# Altium schematic symbol library Connecteurs.SchLib: 30 symbols
Pins are listed as number, name and electrical type; pins without a type are passive.

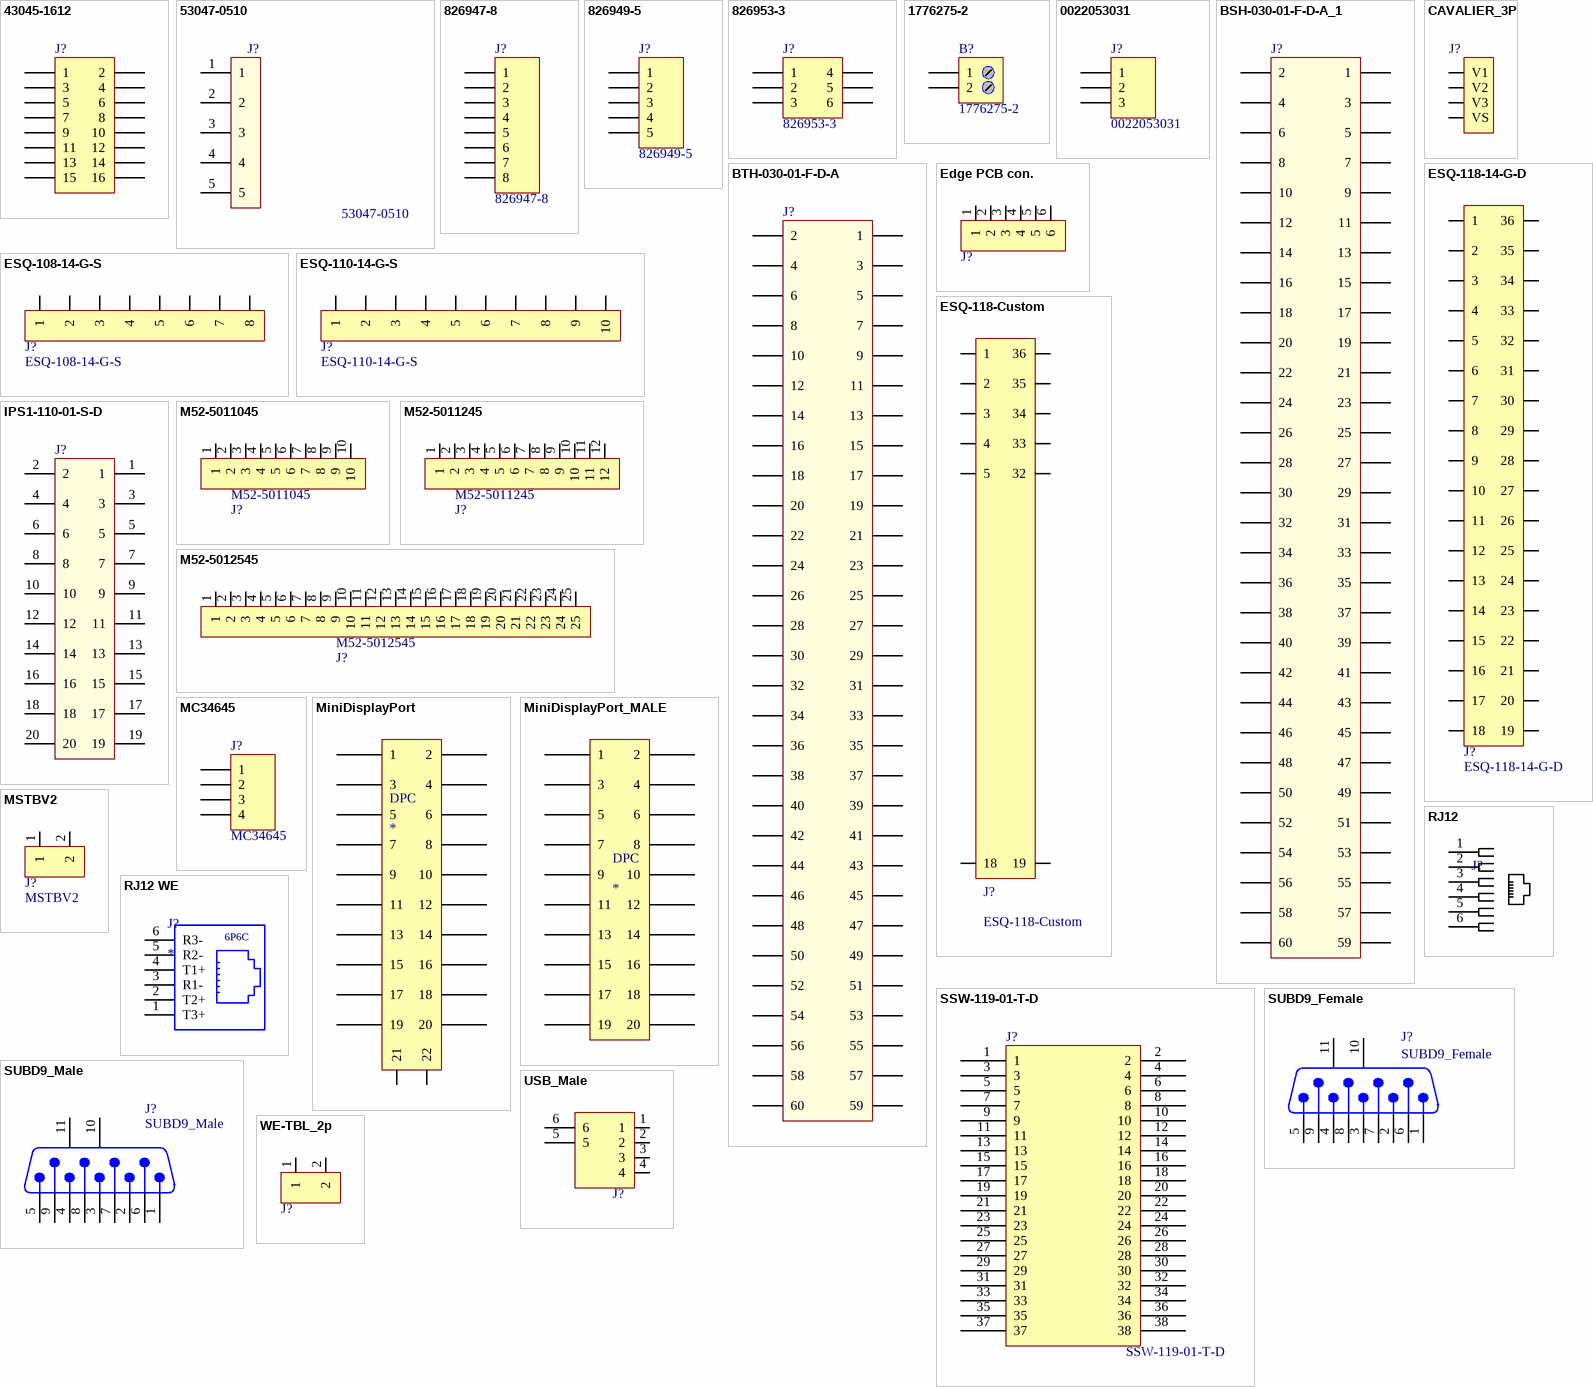
[diagram p0: symbols 43045-1612 to WE-TBL_2p]

## 43045-1612
designator J?  (value not drawn)
CONN HEADER VERT MICRO-FIT 16POS 3MM; Manufacturer: MOLEX; Supplier 1: Farnell; Supplier Part Number 1: 9961356; Manufacturer Part Number: 43045-1612; ComponentLink1URL: http://www.farnell.com/cad/1243826.pdf; ComponentLink1Description: http://www.farnell.com/cad/1243826.pdf; ComponentLink2URL: http://www.farnell.com/datasheets/1802882.pdf; ComponentLink2Description: http://www.farnell.com/datasheets/1802882.pdf
footprint 43045-1612 - ERROR FP
pins: 1, 2, 3, 4, 5, 6, 7, 8, 9, 10, 11, 12, 13, 14, 15, 16

## 53047-0510
designator J?
CONN HEADER VERT PICOBLADE 5POS 1.25MM; Manufacturer: MOLEX; Supplier 1: Farnell; Supplier Part Number 1: 9732861; Manufacturer Part Number: 53047-0510; ComponentLink1URL: http://www.farnell.com/cad/694680.pdf; ComponentLink1Description: http://www.farnell.com/cad/694680.pdf; ComponentLink2URL: http://www.farnell.com/datasheets/1755269.pdf; ComponentLink2Description: http://www.farnell.com/datasheets/1755269.pdf
footprint 53047-0510
pins: 1, 2, 3, 4, 5

## 826947-8
designator J?
CONN HEADER BRKWY R/A 8POS TIN; Manufacturer: TE Connectivity AMP Connectors; Supplier 1: Farnell; Manufacturer Part Number: 826947-8; ComponentLink1URL: http://www.te.com/commerce/DocumentDelivery/DDEController?Action=srchrtrv&DocNm=826629&DocType=Customer+Drawing&DocLang=English; ComponentLink1Description: http://www.te.com/commerce/DocumentDelivery/DDEController?Action=srchrtrv&DocNm=826629&DocType=Customer+Drawing&DocLang=English; Supplier Part Number 1: 1248174
footprint HDR1X8
pins: 1, 2, 3, 4, 5, 6, 7, 8

## 826949-5
designator J?
CONN HEADER BRKWY 5POS R/A TIN; Manufacturer: TE Connectivity AMP Connectors; Supplier 1: Farnell; Manufacturer Part Number: 826949-5; ComponentLink1URL: http://www.te.com/commerce/DocumentDelivery/DDEController?Action=srchrtrv&DocNm=826629&DocType=Customer+Drawing&DocLang=English; ComponentLink1Description: http://www.te.com/commerce/DocumentDelivery/DDEController?Action=srchrtrv&DocNm=826629&DocType=Customer+Drawing&DocLang=English; Supplier Part Number 1: 1248179
footprint HDR1X5
pins: 1, 2, 3, 4, 5

## 826953-3
designator J?
CONN HEADER BRKWY 6POS R/A TIN; Manufacturer: TE Connectivity AMP Connectors; Supplier 1: Farnell; Supplier Part Number 1: 1248186; Manufacturer Part Number: 826953-3; ComponentLink1URL: http://www.te.com/commerce/DocumentDelivery/DDEController?Action=srchrtrv&DocNm=826629&DocType=Customer+Drawing&DocLang=English; ComponentLink1Description: http://www.te.com/commerce/DocumentDelivery/DDEController?Action=srchrtrv&DocNm=826629&DocType=Customer+Drawing&DocLang=English; Pricing: 10=0.221, 50=0.207, 500=0.195, 1000=0.186, 2500=0.179, 5000=0.172 (EUR)
footprint HDR2X3
pins: 1, 2, 3, 4, 5, 6

## 1776275-2
designator B?
TERM BLOCK 2POS SIDE ENT 3.5MM; Manufacturer: TE Connectivity AMP Connectors; Supplier 1: Farnell; Supplier Part Number 1: 1098611; Manufacturer Part Number: 1776275-2; ComponentLink1URL: http://www.te.com/commerce/DocumentDelivery/DDEController?Action=srchrtrv&DocNm=1776275&DocType=Customer+Drawing&DocLang=English; ComponentLink1Description: http://www.te.com/commerce/DocumentDelivery/DDEController?Action=srchrtrv&DocNm=1776275&DocType=Customer+Drawing&DocLang=English
footprint BORNIER_2V_3.5MM
pins: 1, 2

## 0022053031
designator J?
CONN HEADER 3POS .100 R/A TIN; Manufacturer: Molex, LLC; Supplier 1: Farnell; Supplier Part Number 1: 1462932; Manufacturer Part Number: 0022053031; ComponentLink1URL: http://www.molex.com/pdm_docs/sd/022053031_sd.pdf; ComponentLink1Description: http://www.molex.com/pdm_docs/sd/022053031_sd.pdf
footprint HDR1X3
pins: 1, 2, 3

## BSH-030-01-F-D-A_1
designator J?, comment BSH-030-01-F-D-A  (value not drawn)
Samtec 0.5mm pitch 2*30pins  connector; Manufacturer 1: SAMTEC; Manufacturer Part Number: BSH-030-01-F-D-A; Pricing: N/A; ComponentLink1URL: http://www.samtec.com/technical-specifications/Default.aspx?SeriesMaster=BSH; ComponentLink1Description: http://www.samtec.com/technical-specifications/Default.aspx?SeriesMaster=BSH; ComponentLink2URL: http://cloud.samtec.com/catalog_english/BSH.PDF; ComponentLink2Description: http://cloud.samtec.com/catalog_english/BSH.PDF; Supplier 1: Farnell; Supplier Part Number 1: 2250450
footprint BSH-030-01-F-D-A
pins: 1, 2, 3, 4, 5, 6, 7, 8, 9, 10, 11, 12, 13, 14, 15, 16, 17, 18, 19, 20, 21, 22, 23, 24, 25, 26, 27, 28, 29, 30, 31, 32, 33, 34, 35, 36, 37, 38, 39, 40, 41, 42, 43, 44, 45, 46, 47, 48, 49, 50, 51, 52, 53, 54, 55, 56, 57, 58, 59, 60

## BTH-030-01-F-D-A
designator J?  (value not drawn)
Samtec 0.5mm pitch 2*30pins  connector; Manufacturer 1: SAMTEC; Manufacturer Part Number: BTH-030-01-F-D-A; Pricing: N/A; ComponentLink1URL: http://www.samtec.com/technical-specifications/Default.aspx?SeriesMaster=BTH; ComponentLink1Description: http://www.samtec.com/technical-specifications/Default.aspx?SeriesMaster=BTH; ComponentLink2URL: http://cloud.samtec.com/catalog_english/BTH.PDF; ComponentLink2Description: http://cloud.samtec.com/catalog_english/BTH.PDF
footprint BTH-030-01-F-D-A
pins: 1, 2, 3, 4, 5, 6, 7, 8, 9, 10, 11, 12, 13, 14, 15, 16, 17, 18, 19, 20, 21, 22, 23, 24, 25, 26, 27, 28, 29, 30, 31, 32, 33, 34, 35, 36, 37, 38, 39, 40, 41, 42, 43, 44, 45, 46, 47, 48, 49, 50, 51, 52, 53, 54, 55, 56, 57, 58, 59, 60

## CAVALIER_3P
designator J?, comment CAVALIER_4P  (value not drawn)
Manufacturer 1: homemade; Manufacturer Port Number: *; Supplier 1: homemade; Supplier Part Number 1: *
footprint CAVALIER_3P (Connection personnalisé pour bord de carte)
pins: 1 V1, 2 V2, 3 V3, 4 VS

## Edge PCB con.
designator J?  (value not drawn)
Connecteur personnalisé pour soudure à 90° de carte
footprint Edge solder junction (Connection personnalisé pour bord de carte)
pins: 1, 2, 3, 4, 5, 6

## ESQ-108-14-G-S
designator J?
Manufacturer 1: SAMTEC; Supplier 1: Farnell; Supplier Part Number 1: 1769283; Manufacturer Part Number: ESQ-108-14-G-S; Pricing: 5=3.487, 50=2.4, 100=1.875, 250=1.538, 500=1.4, 2500=1.137 (EUR); ComponentLink1URL: http://www.farnell.com/cad/477214.pdf; ComponentLink1Description: http://www.farnell.com/cad/477214.pdf; ComponentLink2URL: http://www.samtec.com/ftppub/pdf/ESQ_TH.pdf; ComponentLink2Description: http://www.samtec.com/ftppub/pdf/ESQ_TH.pdf
footprint ESQ-108-14-G-S
pins: 1, 2, 3, 4, 5, 6, 7, 8

## ESQ-110-14-G-S
designator J?
Manufacturer 1: SAMTEC; Supplier 1: Farnell; Supplier Part Number 1: 1769290; Manufacturer Part Number: ESQ-110-14-G-S; Pricing: 5=4.375, 50=3.012, 100=2.35, 250=1.925, 500=1.75, 2500=1.425 (EUR); ComponentLink1URL: http://www.farnell.com/cad/477214.pdf; ComponentLink1Description: http://www.farnell.com/cad/477214.pdf; ComponentLink2URL: http://www.samtec.com/ftppub/pdf/ESQ_TH.pdf; ComponentLink2Description: http://www.samtec.com/ftppub/pdf/ESQ_TH.pdf
footprint ESQ-110-14-G-S
pins: 1, 2, 3, 4, 5, 6, 7, 8, 9, 10

## ESQ-118-14-G-D
designator J?
Manufacturer 1: SAMTEC; Supplier 1: Farnell; Supplier Part Number 1: 1769197; Manufacturer Part Number: ESQ-118-14-G-D; Pricing: 1=13.413, 10=9.225, 50=6.15, 100=5.475, 250=4.925, 500=4.35 (EUR); ComponentLink1URL: http://www.farnell.com/cad/477214.pdf; ComponentLink1Description: http://www.farnell.com/cad/477214.pdf; ComponentLink2URL: http://www.samtec.com/ftppub/pdf/ESQ_TH.pdf; ComponentLink2Description: http://www.samtec.com/ftppub/pdf/ESQ_TH.pdf
footprint ESQ-118-14-G-D
pins: 1, 2, 3, 4, 5, 6, 7, 8, 9, 10, 11, 12, 13, 14, 15, 16, 17, 18, 19, 20, 21, 22, 23, 24, 25, 26, 27, 28, 29, 30, 31, 32, 33, 34, 35, 36

## ESQ-118-Custom
designator J?
footprint ESQ-118-Custom
pins: 1, 2, 3, 4, 5, 18, 19, 32, 33, 34, 35, 36

## IPS1-110-01-S-D
designator J?  (value not drawn)
Samtec 2'54mm pitch 2*10pins  connector; Supplier 1: Farnell; Supplier Part Number 1: 1667819; Manufacturer 1: SAMTEC; Manufacturer Part Number: IPS1-110-01-S-D; Pricing: 1=4.11, 10=3.95, 50=3.84, 100=3.74, 250=3.15, 500=2.84, 500=2.56, 3000=2.3 (EUR); ComponentLink1URL: http://www.farnell.com/cad/320914.pdf; ComponentLink1Description: http://www.farnell.com/cad/320914.pdf; ComponentLink2URL: http://www.samtec.com/documents/webfiles/pdf/IPS1.PDF; ComponentLink2Description: http://www.samtec.com/documents/webfiles/pdf/IPS1.PDF
footprint IPS1-110-01-S-D
pins: 1, 2, 3, 4, 5, 6, 7, 8, 9, 10, 11, 12, 13, 14, 15, 16, 17, 18, 19, 20

## M52-5011045
designator J?
Manufacturer 1: MULTICOMP; Manufacturer Part Number: 2206SA-10-46; Supplier 1: Farnell; Supplier Part Number 1: 1577767; Pricing: 5=0.98, 25=0.95, 100=0.93, 250=0.87, 500=0.82, 3000=0.738, 3000=0.664, 30000=0.598 (EUR); ComponentLink1URL: http://www.farnell.com/datasheets/1662389.pdf; ComponentLink1Description: http://www.farnell.com/datasheets/1662389.pdf
footprint M52-5011045
pins: 1, 2, 3, 4, 5, 6, 7, 8, 9, 10

## M52-5011245
designator J?
footprint M52-5011245
pins: 1, 2, 3, 4, 5, 6, 7, 8, 9, 10, 11, 12

## M52-5012545
designator J?
Manufacturer 1: MULTICOMP; Manufacturer Part Number: 2206SA-25-46; Supplier 1: Farnell; Supplier Part Number 1: 1577769; Pricing: 5=2.31, 25=2.23, 100=2.17, 250=2.06, 500=1.95, 900=1.76, 900=1.58, 9000=1.42 (EUR); ComponentLink1URL: http://www.farnell.com/datasheets/1662389.pdf; ComponentLink1Description: http://www.farnell.com/datasheets/1662389.pdf
footprint M52-50125245_TOP
footprint M52-50125245_Bottom
pins: 1, 2, 3, 4, 5, 6, 7, 8, 9, 10, 11, 12, 13, 14, 15, 16, 17, 18, 19, 20, 21, 22, 23, 24, 25

## MC34645
designator J?
MULTICOMP - MC34645 - EMB. MALE COUDEE  CON. MALE 2.54MM 4VOIE; Supplier 1: Farnell; Manufacturer: MULTICOMP; Manufacturer Part Number: MC34645; ComponentLink1URL: http://www.farnell.com/datasheets/1751312.pdf; ComponentLink1Description: http://www.farnell.com/datasheets/1751312.pdf; Pricing: 1=0.597, 5=0.531, 25=0.465, 50=0.399, 100=0.334, 250=0.138 (EUR); Supplier Part Number 1: 1675775
footprint HDR1X4
pins: 1, 2, 3, 4

## MiniDisplayPort
designator DPC
minidisplayport; Manufacturer 1: Jameco; Supplier 1: Jameco; Supplier Part Number: mdpC-s-ra
footprint Mdp
pins: 1, 2, 3, 4, 5, 6, 7, 8, 9, 10, 11, 12, 13, 14, 15, 16, 17, 18, 19, 20, 21, 22

## MiniDisplayPort_MALE
designator DPC
minidisplayport_MALE; Manufacturer 1: Jameco; Manufacturer Part Number: mdpC-s-ra; Supplier 1: *; Supplier Part Number 1: *
footprint Mdp - male
pins: 1, 2, 3, 4, 5, 6, 7, 8, 9, 10, 11, 12, 13, 14, 15, 16, 17, 18, 19, 20

## MSTBV2
designator J?
Manufacturer 1: PHOENIX CONTACT; Manufacturer Part Number: MSTBV 2,5/2-GF-5.08; Supplier 1: Farnell; Supplier Part Number 1: 1792792; Pricing: 1=2.61, 10=2.27, 50=1.9, 100=1.71, 250=1.63, 400=1.47, 400=1.32, 4000=1.19 (EUR); ComponentLink1URL: http://www.farnell.com/datasheets/528161.pdf; ComponentLink1Description: http://www.farnell.com/datasheets/528161.pdf
footprint MSTBV2
pins: 1, 2

## RJ12
designator J?  (value not drawn)
Manufacturer: TE CONNECTIVITY / AMP; Manufacturer Part Number: 5520258-3; Supplier 1: Farnell; Supplier Part Number 1: 1214651; Pricing: 10=0.67, 100=0.54, 250=0.48, 600=0.467, 2000=0.463, 6000=0.454, 6000=0.445 (EUR); ComponentLink1URL: http://www.tycoelectronics.com/commerce/DocumentDelivery/DDEController?Action=srchrtrv&DocNm=5520258-3&DocType=Customer+View+Model&DocLang=English; ComponentLink1Description: http://www.tycoelectronics.com/commerce/DocumentDelivery/DDEController?Action=srchrtrv&DocNm=5520258-3&DocType=Customer+View+Model&DocLang=English; ComponentLink2URL: http://www.tycoelectronics.com/commerce/DocumentDelivery/DDEController?Action=srchrtrv&DocNm=5520258&DocType=Customer+Drawing&DocLang=English; ComponentLink2Description: http://www.tycoelectronics.com/commerce/DocumentDelivery/DDEController?Action=srchrtrv&DocNm=5520258&DocType=Customer+Drawing&DocLang=English; ComponentLink3URL: http://www.farnell.com/datasheets/492544.pdf; ComponentLink3Description: http://www.farnell.com/datasheets/492544.pdf
footprint RJ12
pins: 1, 2, 3, 4, 5, 6

## RJ12 WE
designator J?
WR-COM Modular Jack Horizontal Half-shielded 1x1 TH    6P6C Tab Down; Manufacturer 1: Wuerth Elektronik eiSos GmbH; Manufacturer Part Number: 615006143421; ComponentLink1 Description: Manufacturer; ComponentLink2 Description: Datasheet; NoPins: 6; ComponentLink1URL: http://www.we-online.de; ComponentLink2URL: http://katalog.we-online.de/em/datasheet/615006143421.pdf; Created by: Karrer Zheng; Created Date: 10/22/2014; Supplier 1: Farnell; Supplier Part Number 1: 2442740
footprint 615006143421
pins: 1 T3+, 2 T2+, 3 R1-, 4 T1+, 5 R2-, 6 R3-
text: 6P6C

## SSW-119-01-T-D
designator J?
CONN RCPT .100" 38POS DUAL TIN; Manufacturer: Samtec Inc.; Supplier 1: Farnell; Supplier Part Number 1: 2667437; Manufacturer Part Number: SSW-119-01-T-D; ComponentLink1URL: http://suddendocs.samtec.com/prints/ssw-1xx-xx-xxx-x-xx-xxx-xx-mkt.pdf; ComponentLink1Description: http://suddendocs.samtec.com/prints/ssw-1xx-xx-xxx-x-xx-xxx-xx-mkt.pdf
footprint CONN RCPT .100" 38POS DUAL TIN
pins: 1, 2, 3, 4, 5, 6, 7, 8, 9, 10, 11, 12, 13, 14, 15, 16, 17, 18, 19, 20, 21, 22, 23, 24, 25, 26, 27, 28, 29, 30, 31, 32, 33, 34, 35, 36, 37, 38
3 alternate drawings of the same symbol

## SUBD9_Female
designator J?
footprint SUBD-9_FEMALE
pins: 1, 2, 3, 4, 5, 6, 7, 8, 9, 10 MH1, 11 MH2

## SUBD9_Male
designator J?
footprint SUBD-9_Male
pins: 1, 2, 3, 4, 5, 6, 7, 8, 9, 10 MH1, 11 MH2

## USB_Male
designator J?  (value not drawn)
USB A MALE 4 VOIES CMS; Manufacturer 1: MOLEX; Manufacturer part Number: 48037-2200; Supplier 1: Farnell; Supplier Part Number 1: 2313729
footprint USB-A_Male_CMS
footprint USB-B_Top-Entry
pins: 1, 2, 3, 4, 5, 6

## WE-TBL_2p
designator J?  (value not drawn)
Wurth Electronik - WR-TBL; Manufacturer 1: WURTH ELEKTRONIK; Manufacturer Part Number: 691311500102; value: 2pin; Supplier 1: Farnell; Supplier Part Number 1: 1641978; Pricing: 1=0.291, 10=0.245, 50=0.218, 100=0.206, 250=0.194, 600=0.181 (EUR); ComponentLink1URL: http://www.farnell.com/datasheets/1442493.pdf; ComponentLink1Description: http://www.farnell.com/datasheets/1442493.pdf
footprint WE-TBL_2p_Ser.313 (ref 691313510002)
pins: 1, 2